# Altium footprint library Capicator.PcbLib: 2 footprints
Each footprint in its own frame and in the unit in brackets; x right, y up, seen from the top. Pads: shape width x height; smd on the part's side, far side on the other; paste and mask are expansions set on the pad; w line width, h text height; cw(c..) or ccw(c..) is an arc to the next point about the centre after c.
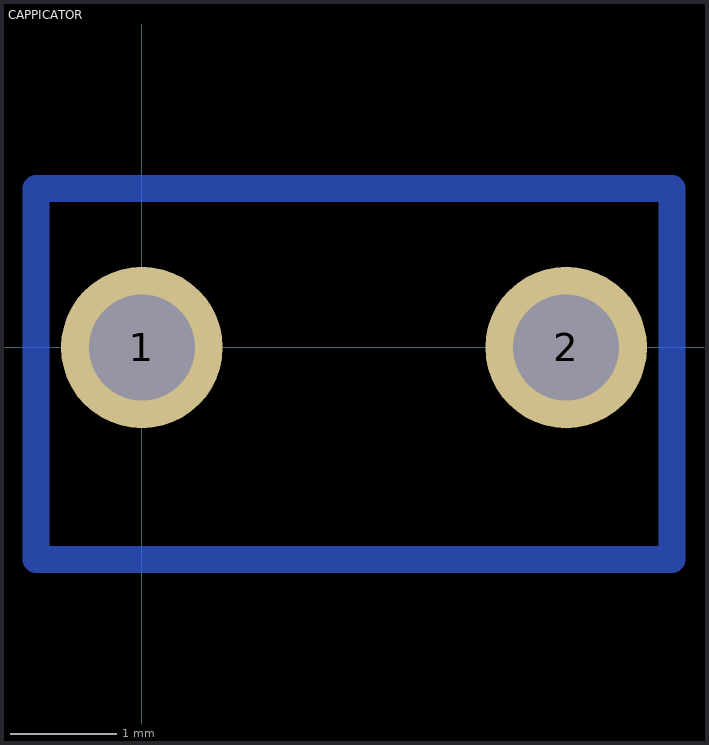
[diagram p0: the footprints below, top view; thin cyan lines are the x and y axes]

## CAPPICATOR [mil]
pads (2):
  round 60 hole 39.37: 1(0,0) 2(157.48,0)
Bottom Layer:
  lines w10: -39.37,-78.74 -39.37,59.06 196.85,59.06 196.85,-78.74 -39.37,-78.74

## PCBComponent_1 [mil]